# Altium footprint library BluePillPcbLibrary.PcbLib: 13 footprints
Each footprint in its own frame and in the unit in brackets; x right, y up, seen from the top. Pads: shape width x height; smd on the part's side, far side on the other; paste and mask are expansions set on the pad; w line width, h text height; cw(c..) or ccw(c..) is an arc to the next point about the centre after c.
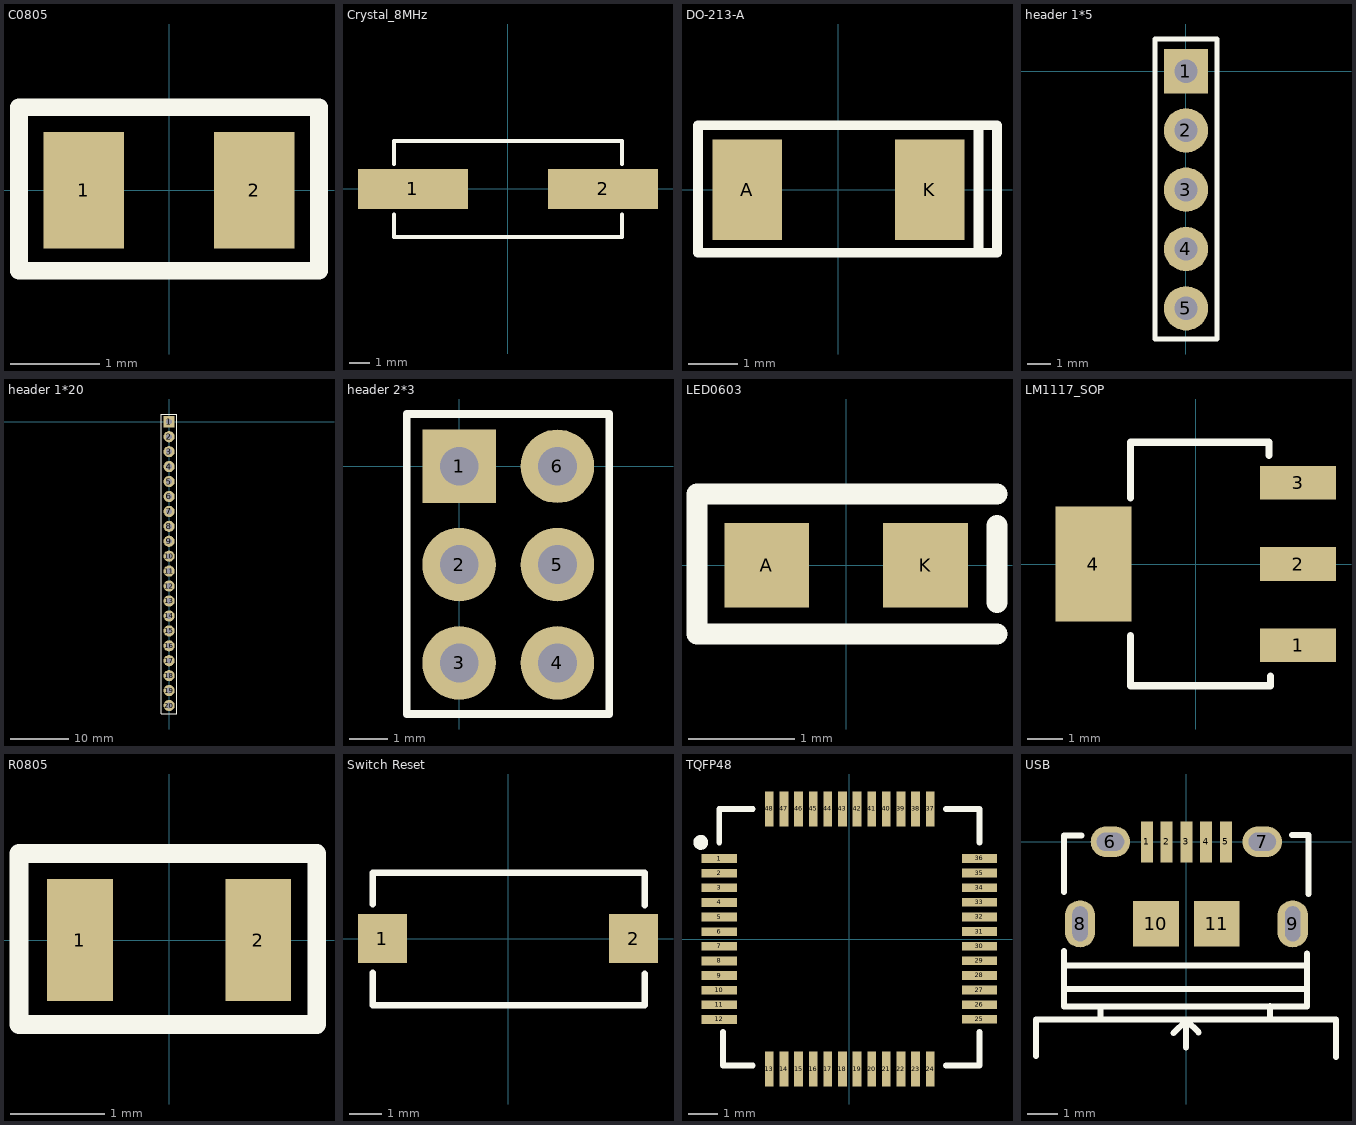
[diagram p0: the footprints below, top view; thin cyan lines are the x and y axes]

## C0805 [mm]
pads (2):
  rect 0.9x1.3 smd: 1(-0.95,0) 2(0.95,0)
Top Overlay:
  lines w0.2: -1.675,-0.9 1.675,-0.9 1.675,0.925 -1.675,0.925 -1.675,-0.9
3D body "User Library-User Library-0805(2012M) Cap.step": height 1.3, standoff 0.01, extent -1,-0.645 1,0.645

## Crystal_8MHz [mm]
pads (2):
  rect 5.5x2 smd: 1(-4.75,0) 2(4.75,0)
Top Overlay:
  lines w0.2: -5.7,-1.275 -5.7,-2.4 5.7,-2.4 5.7,-1.275 ; -5.7,1.25 -5.7,2.4 5.7,2.4 5.7,1.25
3D body "User Library-ECS-240-20-5PX-TR.step": height 4.31, standoff 0.01, extent -6.65,-2.4 6.55,2.4

## DO-213-A [mm]
pads (2):
  rect 1.4x2.03 smd: A(-1.84,0) K(1.84,0)
Top Overlay:
  lines w0.2: -2.834,-1.275 2.825,-1.275 ; -2.834,-1.255 -2.834,1.3 2.825,1.3 ; 2.825,-1.275 3.2,-1.275 3.2,1.3 2.825,1.3 ; 2.825,-1.275 2.825,1.3
3D body "User Library-MiniMelf-2.step": height 1.6, standoff 0, extent -1.82,-0.75 1.88,0.85

## header 1*5 [mm]
pads (5):
  rect 1.9x1.9 hole 1: 1(0,0)
  round 1.9 hole 1: 2(0,-2.54) 3(0,-5.08) 4(0,-7.62) 5(0,-10.16)
Top Overlay:
  lines w0.2: -1.325,-11.475 -1.325,1.375 1.325,1.375 1.325,-11.475 -1.325,-11.475
3D body "m20-9990545_asm.stp": height 5.59, standoff -6.09, extent -1.295,-11.4 1.245,1.3

## header 1*20 [mm]
pads (20):
  rect 1.9x1.9 hole 1: 1(0,0)
  round 1.9 hole 1: 2(0,-2.54) 3(0,-5.08) 4(0,-7.62) 5(0,-10.16) 6(0,-12.7) 7(0,-15.24) 8(0,-17.78) 9(0,-20.32) 10(0,-22.86) 11(0,-25.4) 12(0,-27.94) 13(0,-30.48) 14(0,-33.02) 15(0,-35.56) 16(0,-38.1) 17(0,-40.64) 18(0,-43.18) 19(0,-45.72) 20(0,-48.26)
Top Overlay:
  lines w0.2: -1.375,-49.7 1.325,-49.7 1.325,1.325 -1.375,1.325 -1.375,-49.7
3D body "m20-9992045_asm.stp": height 5.59, standoff -6.09, extent -1.27,-49.625 1.27,1.175

## header 2*3 [mm]
pads (6):
  rect 1.9x1.9 hole 1: 1(0,0)
  round 1.9 hole 1: 2(0,-2.54) 3(0,-5.08) 4(2.54,-5.08) 5(2.54,-2.54) 6(2.54,0)
Top Overlay:
  lines w0.2: -1.35,-6.4 3.875,-6.4 3.875,1.35 -1.35,1.35 -1.35,-6.4
3D body "m20-9980345_asm.stp": height 8.05, standoff -3.63, extent -1.275,-6.27 3.805,1.35

## LED0603 [mm]
pads (2):
  rect 0.8x0.8 smd: A(-0.75,0) K(0.75,0)
Top Overlay:
  lines w0.2: -1.41,-0.65 1.425,-0.65 ; -1.41,-0.646 -1.41,0.65 ; -1.41,0.675 1.425,0.675 ; 1.425,-0.35 1.425,0.375
3D body "User Library-LED SMD0603.step": height 0.69, standoff 0.01, extent -0.825,-0.35 0.825,0.375

## LM1117_SOP [mm]
pads (4):
  rect 2.15x0.95 smd: 1(2.9,-2.3) 2(2.9,0) 3(2.9,2.3)
  rect 2.15x3.25 smd: 4(-2.9,0)
Top Overlay:
  lines w0.2: -1.85,-3.45 -1.85,-2.025 ; -1.85,1.875 -1.85,3.45 2.075,3.45 2.075,3.075 ; -1.8,-3.45 2.125,-3.45 2.125,-3.175
3D body "User Library-SOT-223-1.step": height 1.64, standoff -0.01, extent -3.4,-3.225 3.6,3.275

## PCBComponent_1 [mm]

## R0805 [mm]
pads (2):
  rect 0.7x1.3 smd: 1(-0.95,0) 2(0.95,0)
Top Overlay:
  lines w0.2: -1.6,-0.9 1.575,-0.9 1.575,0.925 -1.6,0.925 -1.6,-0.9
3D body "User Library-CR2012-0805.step": height 0.61, standoff 0.01, extent -1,-0.625 1,0.625

## Switch Reset [mm]
pads (2):
  rect 1.5x1.5 smd: 1(-3.85,0) 2(3.85,0)
Top Overlay:
  lines w0.2: -4.15,-1.05 -4.15,-2.05 4.2,-2.05 4.2,-1.075 ; -4.15,1.05 -4.15,2.025 4.2,2.025 4.2,1.025
3D body "User Library-Tact switch 1181_3.STEP": height 2.51, standoff 0.01, extent -3.975,-1.8 4.025,1.8

## TQFP48 [mm]
pads (48):
  rect 1.2x0.3 smd mask+0.06: 1(-4.446,2.75) 2(-4.446,2.25) 3(-4.446,1.75) 4(-4.446,1.25) 5(-4.446,0.75) 6(-4.446,0.25) 7(-4.446,-0.25) 8(-4.446,-0.75) 9(-4.446,-1.25) 10(-4.446,-1.75) 11(-4.446,-2.25) 12(-4.446,-2.75) 25(4.445,-2.746) 26(4.445,-2.246) 27(4.445,-1.746) 28(4.445,-1.246) 29(4.445,-0.746) 30(4.445,-0.246) 31(4.445,0.254) 32(4.445,0.754) 33(4.445,1.254) 34(4.445,1.754) 35(4.445,2.254) 36(4.445,2.754)
  rect 0.3x1.2 smd mask+0.06: 13(-2.738,-4.445) 14(-2.238,-4.445) 15(-1.738,-4.445) 16(-1.238,-4.445) 17(-0.738,-4.445) 18(-0.238,-4.445) 19(0.262,-4.445) 20(0.762,-4.445) 21(1.262,-4.445) 22(1.762,-4.445) 23(2.262,-4.445) 24(2.762,-4.445) 37(2.762,4.445) 38(2.262,4.445) 39(1.762,4.445) 40(1.262,4.445) 41(0.762,4.445) 42(0.262,4.445) 43(-0.238,4.445) 44(-0.738,4.445) 45(-1.238,4.445) 46(-1.738,4.445) 47(-2.238,4.445) 48(-2.738,4.445)
Top Overlay:
  circle w0.254: c-5.08,3.302 r0.127
  lines w0.2: -4.445,3.302 -4.445,4.445 -3.302,4.445 ; -4.318,-3.175 -4.318,-4.318 -3.302,-4.318 ; 3.302,-4.318 4.445,-4.318 4.445,-3.175 ; 3.302,4.445 4.445,4.445 4.445,3.302
3D body "User Library-STM32F103C8T6.STEP": height 1.55, standoff 0, extent -4.5,-4.5 4.5,4.5

## USB [mm]
pads (11):
  rect 0.4x1.35 smd mask+0.06: 1(-1.3,0) 2(-0.65,0) 3(0,0) 4(0.65,0) 5(1.3,0)
  oval 1.3x1 hole 0.6 slot 0.9 at 0 deg: 6(-2.5,0) 7(2.5,0)
  oval 1x1.55 hole 0.5 slot 1.15 at 90 deg: 8(-3.5,-2.7) 9(3.5,-2.7)
  rect 1.5x1.5 smd mask+0.06: 10(-1,-2.7) 11(1,-2.7)
Top Overlay:
  lines w0.2: -4.95,-7.05 -4.95,-5.85 4.925,-5.85 4.925,-7.075 ; -4.025,-3.6 -4.025,-5.425 3.975,-5.425 3.975,-3.675 ; -4.025,-1.65 -4.025,0.2 -3.45,0.2 ; -4,-4.075 -3.5,-4.075 3.925,-4.075 ; -3.5,-4.85 -4.025,-4.85 3.95,-4.85 ; -2.85,-5.825 -2.825,-5.8 -2.825,-5.475 ; -0.425,-6.3 -0.012,-5.887 ; -0.012,-6.762 -0.012,-5.85 -0.012,-5.863 -0.012,-5.887 ; 0.4,-6.275 0.012,-5.887 -0.012,-5.887 ; 2.75,-5.725 2.75,-5.4 ; 3.475,0.225 4.025,0.225 4.025,-1.725
3D body "10118194c.stp": height 2.77, standoff -0.7, extent -4.025,-5.5 4.025,0.192